# EAGLE library part QUECTEL-M95 (library Yobi)
Quad-Band GSM/GPRS Module LCC
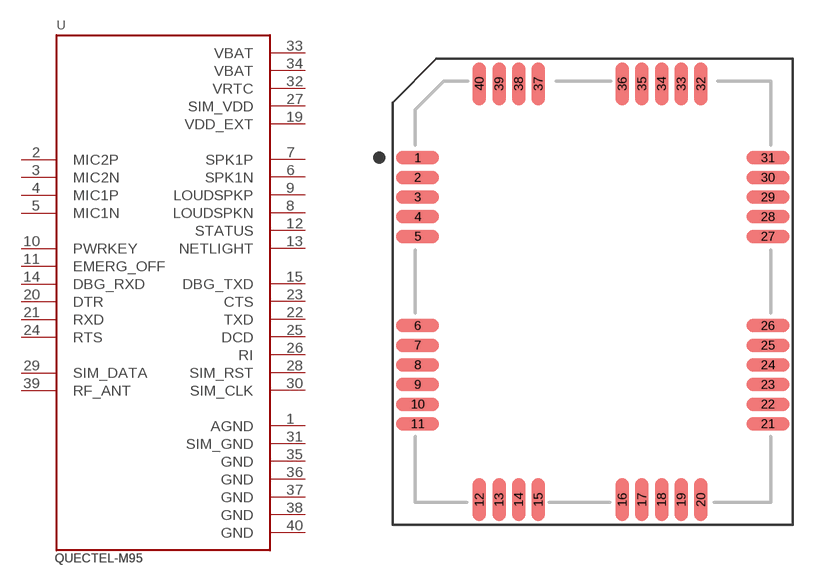
[diagram p0: symbol with the pads of XCVR_M95; footprint XCVR_M95]

Designator prefix U

## QUECTEL-M95  [XCVR_M95]
1  AGND  pwr
2  MIC2P  in
3  MIC2N  in
4  MIC1P  in
5  MIC1N  in
6  SPK1N  out
7  SPK1P  out
8  LOUDSPKN  out
9  LOUDSPKP  out
10  PWRKEY  in
11  EMERG_OFF  in
12  STATUS  out
13  NETLIGHT  out
14  DBG_RXD  in
15  DBG_TXD  out
19  VDD_EXT  pwr
20  DTR  in
21  RXD  in
22  TXD  out
23  CTS  out
24  RTS  in
25  DCD  out
26  RI  out
27  SIM_VDD  pwr
28  SIM_RST  out
29  SIM_DATA
30  SIM_CLK  out
31  SIM_GND  pwr
32  VRTC  pwr
33  VBAT  pwr
34  VBAT  pwr
35  GND  pwr
36  GND  pwr
37  GND  pwr
38  GND  in
39  RF_ANT
40  GND  pwr

## Footprint XCVR_M95 (pad centres in mm)
smd 2.4 x 0.75: 1 -9.8,7.5; 2 -9.8,6.4; 3 -9.8,5.3; 4 -9.8,4.2; 5 -9.8,3.1; 6 -9.8,-1.9; 7 -9.8,-3; 8 -9.8,-4.1; 9 -9.8,-5.2; 10 -9.8,-6.3; 11 -9.8,-7.4; 21 9.8,-7.4; 22 9.8,-6.3; 23 9.8,-5.2; 24 9.8,-4.1; 25 9.8,-3; 26 9.8,-1.9; 27 9.8,3.1; 28 9.8,4.2; 29 9.8,5.3; 30 9.8,6.4; 31 9.8,7.5
smd 0.75 x 2.4: 12 -6.35,-11.65; 13 -5.25,-11.65; 14 -4.15,-11.65; 15 -3.05,-11.65; 16 1.65,-11.65; 17 2.75,-11.65; 18 3.85,-11.65; 19 4.95,-11.65; 20 6.05,-11.65; 32 6.05,11.65; 33 4.95,11.65; 34 3.85,11.65; 35 2.75,11.65; 36 1.65,11.65; 37 -3.05,11.65; 38 -4.15,11.65; 39 -5.25,11.65; 40 -6.35,11.65